# EAGLE library part LTC4000-1 (library LTC4000-1)
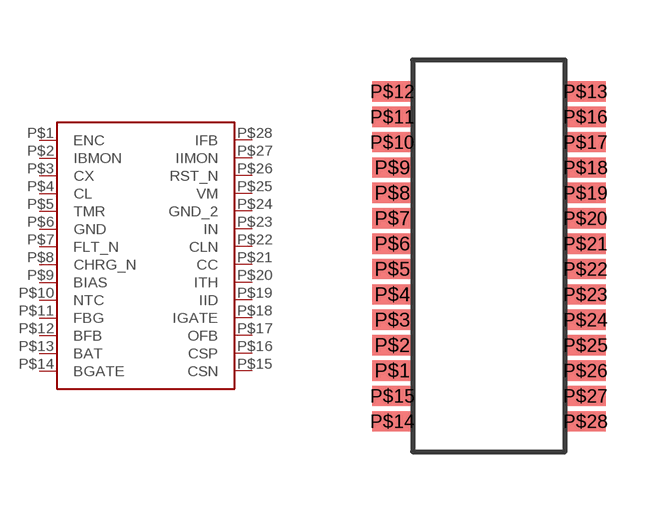
[diagram p0: symbol with the pads of SSOP-28; footprint SSOP-28]

Designator prefix -

## LTC4000-1  [SSOP-28]
P$1  ENC
P$2  IBMON
P$3  CX
P$4  CL
P$5  TMR
P$6  GND
P$7  FLT_N
P$8  CHRG_N
P$9  BIAS
P$10  NTC
P$11  FBG
P$12  BFB
P$13  BAT
P$14  BGATE
P$15  CSN
P$16  CSP
P$17  OFB
P$18  IGATE
P$19  IID
P$20  ITH
P$21  CC
P$22  CLN
P$23  IN
P$24  GND_2
P$25  VM
P$26  RST_N
P$27  IIMON
P$28  IFB

## Footprint SSOP-28 (pad centres in mm)
smd 1.016 x 0.508: P$1 -0.508,2.032; P$2 -0.508,2.667; P$3 -0.508,3.302; P$4 -0.508,3.937; P$5 -0.508,4.572; P$6 -0.508,5.207; P$7 -0.508,5.842; P$8 -0.508,6.477; P$9 -0.508,7.112; P$10 -0.508,7.747; P$11 -0.508,8.382; P$12 -0.508,9.017; P$13 4.318,9.017; P$14 -0.508,0.762; P$15 -0.508,1.397; P$16 4.318,8.382; P$17 4.318,7.747; P$18 4.318,7.112; P$19 4.318,6.477; P$20 4.318,5.842; P$21 4.318,5.207; P$22 4.318,4.572; P$23 4.318,3.937; P$24 4.318,3.302; P$25 4.318,2.667; P$26 4.318,2.032; P$27 4.318,1.397; P$28 4.318,0.762